# EAGLE library part PIC24FVXXKA301 (library openct)
Microchip PIC24FVxxKA301 microcontroller (2k ram, 12-bit adc, 2-5.5V operating voltage)
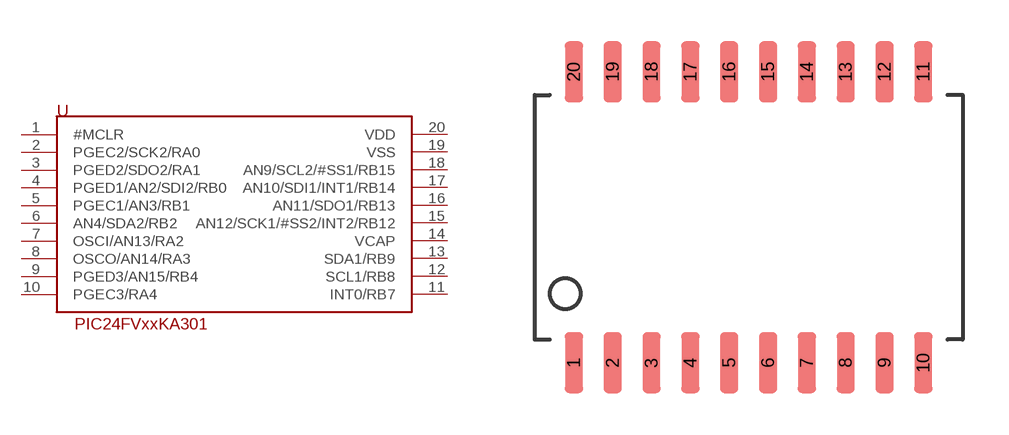
[diagram p3: symbol with the pads of SOIC-20; footprint SOIC-20]

Designator prefix U

## PIC24FVXXKA301  [SOIC-20]
1  #MCLR
2  PGEC2/SCK2/RA0
3  PGED2/SDO2/RA1
4  PGED1/AN2/SDI2/RB0
5  PGEC1/AN3/RB1
6  AN4/SDA2/RB2
7  OSCI/AN13/RA2
8  OSCO/AN14/RA3
9  PGED3/AN15/RB4
10  PGEC3/RA4
11  INT0/RB7
12  SCL1/RB8
13  SDA1/RB9
14  VCAP
15  AN12/SCK1/#SS2/INT2/RB12
16  AN11/SDO1/RB13
17  AN10/SDI1/INT1/RB14
18  AN9/SCL2/#SS1/RB15
19  VSS
20  VDD

## Footprint SOIC-20 (pad centres in mm)
smd 0.6 x 2: 1 -5.715,-4.762; 2 -4.445,-4.762; 3 -3.175,-4.762; 4 -1.905,-4.762; 5 -0.635,-4.762; 6 0.635,-4.762; 7 1.905,-4.762; 8 3.175,-4.762; 9 4.445,-4.762; 10 5.715,-4.762; 11 5.715,4.763; 12 4.445,4.763; 13 3.175,4.763; 14 1.905,4.763; 15 0.635,4.763; 16 -0.635,4.763; 17 -1.905,4.763; 18 -3.175,4.763; 19 -4.445,4.763; 20 -5.715,4.763